# Altium footprint library Blue Tractor_v1.1-2021.PcbLib: 13 footprints
Each footprint in its own frame and in the unit in brackets; x right, y up, seen from the top. Pads: shape width x height; smd on the part's side, far side on the other; paste and mask are expansions set on the pad; w line width, h text height; cw(c..) or ccw(c..) is an arc to the next point about the centre after c.
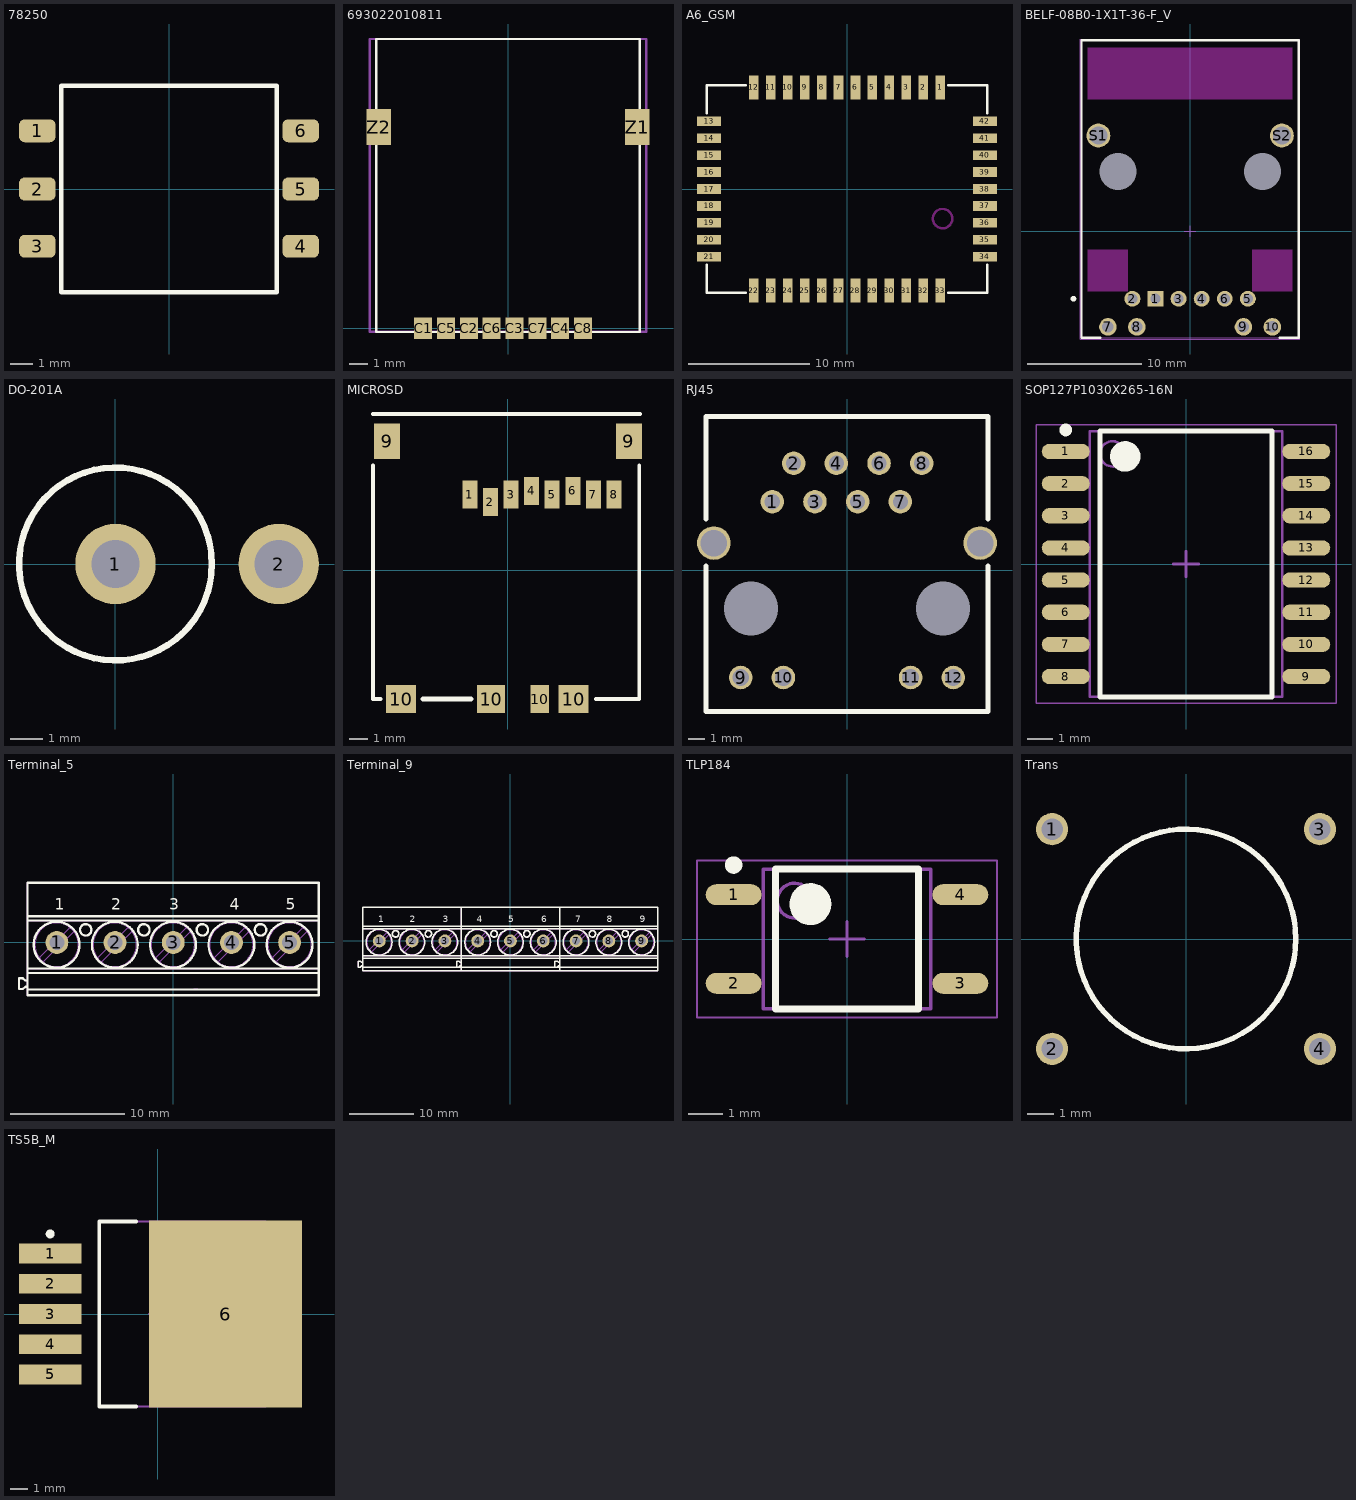
[diagram p0: the footprints below, top view; thin cyan lines are the x and y axes]

## 78250 [mm] "Compatible Converter Transformers"
height 6
pads (6):
  rrect50% 1.6x1 smd: 1(-5.75,2.54) 2(-5.75,0) 3(-5.75,-2.5) 4(5.75,-2.5) 5(5.75,0) 6(5.75,2.54)
Top Overlay:
  lines w0.2: -4.7,-4.5 -4.7,4.5 4.7,4.5 4.7,-4.5 -4.7,-4.5
3D body "User Library-78250MC_SMD.STEP": height 6.35, standoff 0, extent -6.35,-4.445 6.35,4.445

## 693022010811 [mm]
pads (10):
  rect 1x1.2 smd: C1(-4.72,0) C2(-2.18,0) C3(0.36,0) C4(2.9,0) C5(-3.45,0) C6(-0.91,0) C7(1.63,0) C8(4.17,0)
  rect 1.35x2 smd: Z1(7.2,11.2) Z2(-7.2,11.2)
Top Overlay:
  lines w0.127: -7.33,-0.21 7.33,-0.21 7.33,16.1 -7.33,16.1 -7.33,-0.21
Mechanical 13:
  lines w0.127: -7.7,-0.2 7.7,-0.2 7.7,16.1 -7.7,16.1 -7.7,-0.2
3D body "693022010811.stp": height 2.07, standoff -0.06, extent -7.7,-0.21 7.7,16.09

## A6_GSM [mm]
height 3
pads (42):
  rect 0.8x2 smd: 1(7.7,8.4) 2(6.3,8.4) 3(4.9,8.4) 4(3.5,8.4) 5(2.1,8.4) 6(0.7,8.4) 7(-0.7,8.4) 8(-2.1,8.4) 9(-3.5,8.4) 10(-4.9,8.4) 11(-6.3,8.4) 12(-7.7,8.4) 22(-7.7,-8.4) 23(-6.3,-8.4) 24(-4.9,-8.4) 25(-3.5,-8.4) 26(-2.1,-8.4) 27(-0.7,-8.4) 28(0.7,-8.4) 29(2.1,-8.4) 30(3.5,-8.4) 31(4.9,-8.4) 32(6.3,-8.4) 33(7.7,-8.4)
  rect 2x0.8 smd: 13(-11.4,5.6) 14(-11.4,4.2) 15(-11.4,2.8) 16(-11.4,1.4) 17(-11.4,0) 18(-11.4,-1.4) 19(-11.4,-2.8) 20(-11.4,-4.2) 21(-11.4,-5.6) 34(11.4,-5.6) 35(11.4,-4.2) 36(11.4,-2.8) 37(11.4,-1.4) 38(11.4,0) 39(11.4,1.4) 40(11.4,2.8) 41(11.4,4.2) 42(11.4,5.6)
Top Layer keep-out:
  circle w0.2: c7.9,-2.45 r0.8
Top Overlay:
  lines w0.2: -11.608,-6.274 -11.608,-8.585 -8.382,-8.585 ; -11.608,6.274 -11.608,8.585 -8.382,8.585 ; 8.382,-8.585 11.608,-8.585 11.608,-6.274 ; 8.382,8.585 11.608,8.585 11.608,6.274
3D body "User Library-GSM A6-1.step": height 3.21, standoff 0, extent -11.4,-8.4 11.4,8.4

## BELF-08B0-1X1T-36-F_V [mm] "RJ45, 10-Leads, Body 26.17x19.11mm"
height 15.4
pads (14):
  rect 1.4x1.4 hole 0.89 paste+0: 1(-3.045,-5.935)
  round 1.4 hole 0.89 paste+0: 2(-5.075,-5.935) 3(-1.015,-5.935) 4(1.015,-5.935) 5(5.075,-5.935) 6(3.045,-5.935)
  round 1.55 hole 1.02 paste+0: 7(-7.225,-8.405) 8(-4.685,-8.405) 9(4.685,-8.405) 10(7.225,-8.405)
  round 0 hole 3.25 unplated paste+0: MH1(-6.35,5.235) MH2(6.35,5.235)
  round 2.1 hole 1.57 paste+0: S1(-8.065,8.405) S2(8.065,8.405)
Top Layer keep-out:
  rectangle: -9.015,11.585 9.015,16.155
  rectangle: 5.46,-5.305 9.015,-1.625
  rectangle: -9.015,-5.305 -5.46,-1.625
Top Overlay:
  circle w0.25: c-10.255,-5.935 r0.125
  lines w0.2: -7.888,-9.375 -9.555,-9.375 -9.555,16.795 9.555,16.795 9.555,-9.375 7.888,-9.375
Mechanical 13:
  lines w0.1: -9.555,-9.375 9.555,-9.375 9.555,16.795 -9.555,16.795 -9.555,-9.375
Mechanical 15:
  lines w0.05: -9.655,-9.475 9.655,-9.475 9.655,16.895 -9.655,16.895 -9.655,-9.475
  lines w0.1: -0.5,0 0.5,0 ; 0,-0.5 0,0.5
3D body "User Library-RJ45_Belfuse_08B0-1D1T-06-F.step": height 13.49, standoff -3.17, extent -8.85,-9.381 8.85,16.789

## DO-201A [mm] "Diode"
pads (2):
  round 2.5 hole 1.5: 1(0,0) 2(5.08,0)
Top Overlay:
  circle w0.2: c0,0 r3
3D body "User Library-DO-201AV-Vertical_200.STEP": height 15.69, standoff -3, extent -2.8,-2.8 5.74,2.8

## MICROSD [mm]
height 1.8
pads (14):
  rect 0.8x1.5 smd: 1(-2.04,4.025) 2(-0.94,3.625) 3(0.16,4.025) 4(1.26,4.225) 5(2.36,4.025) 6(3.46,4.225) 7(4.56,4.025) 8(5.66,4.025)
  rect 1.4x1.9 smd: 9(-6.45,6.875) 9(6.45,6.875)
  rect 1.6x1.5 smd: 10(-5.7,-6.875) 10(3.5,-6.875)
  rect 1.5x1.5 smd: 10(-0.9,-6.875)
  rect 1x1.5 smd: 10(1.7,-6.875)
Top Overlay:
  lines w0.2: -7.2,5.575 -7.2,-6.875 -6.8,-6.875 ; -7.2,8.325 7.05,8.325 ; 4.675,-6.875 7,-6.875 7,5.575
  lines w0.254: -4.55,-6.875 -1.975,-6.875
3D body "User Library-MEM2050.step": height 1.9, standoff 0, extent -7.2,-6.875 7.05,8.325

## RJ45 [mm]
pads (16):
  round 1.4 hole 0.9: 1(-4.445,4.087) 2(-3.175,6.373) 3(-1.905,4.087) 4(-0.635,6.373) 5(0.635,4.087) 6(1.905,6.373) 7(3.175,4.087) 8(4.445,6.373)
  round 1.4 hole 1: 9(-6.325,-6.373) 10(-3.785,-6.373) 11(3.785,-6.373) 12(6.325,-6.373)
  round 2 hole 1.57: ""(-7.925,1.627) ""(7.925,1.627)
  round 1.3 hole 3.2: ""(-5.715,-2.263) ""(5.715,-2.263)
Top Overlay:
  lines w0.3: -8.382,0.254 -8.382,-8.382 8.382,-8.382 8.382,0.254 ; -8.382,3.048 -8.382,9.144 8.382,9.144 8.382,3.048
3D body "c-5-2301995-3-a-3d.stp": height 16.3, standoff -3.77, extent -8.025,-8.096 8.025,8.854

## SOP127P1030X265-16N [mm] "SOP, 16-Leads, Body 10,30x7,60mm, Pitch 1,27mm, IPC Medium Density"
height 2.65
pads (16):
  oval 1.9x0.6 smd: 1(-4.75,4.445) 2(-4.75,3.175) 3(-4.75,1.905) 4(-4.75,0.635) 5(-4.75,-0.635) 6(-4.75,-1.905) 7(-4.75,-3.175) 8(-4.75,-4.445) 9(4.75,-4.445) 10(4.75,-3.175) 11(4.75,-1.905) 12(4.75,-0.635) 13(4.75,0.635) 14(4.75,1.905) 15(4.75,3.175) 16(4.75,4.445)
Top Overlay:
  circle w0.25: c-4.75,5.295 r0.125
  circle w0.6: c-2.4,4.25 r0.3
  lines w0.2: -3.4,-5.25 -3.4,5.25 3.4,5.25 3.4,-5.25 -3.4,-5.25
Assembly Top:
  circle w0.1: c-2.9,4.35 r0.5
  lines w0.1: -3.8,-5.25 -3.8,5.25 3.8,5.25 3.8,-5.25 -3.8,-5.25
Courtyard Top:
  lines w0.05: -5.925,-5.5 -5.925,5.5 5.925,5.5 5.925,-5.5 -5.925,-5.5
  lines w0.1: -0.5,0 0.5,0 ; 0,-0.5 0,0.5
3D body "SOP127P1030X265-16N.step": height 2.65, standoff 0, extent -5.162,-5.25 5.162,5.25

## Terminal_5 [mm] "PHOENIX MKDS Serie, Pitch 5.08mm, 24A, 400V, 5 Positions Header"
height 18
pads (5):
  round 2 hole 1.3: 1(-10.16,0) 2(-5.08,0) 3(0,0) 4(5.08,0) 5(10.16,0)
Top Overlay:
  circle w0.2: c2.54,1.1 r0.5
  circle w0.2: c7.62,1.1 r0.5
  circle w0.2: c5.08,-0.2 r2
  circle w0.2: c10.16,-0.2 r2
  circle w0.2: c-7.645,1.1 r0.5
  circle w0.2: c-2.565,1.1 r0.5
  circle w0.2: c-10.185,-0.2 r2
  circle w0.2: c-5.105,-0.2 r2
  circle w0.2: c-0.025,-0.2 r2
  lines w0.2: -12.725,-4.1 2.515,-4.1 ; -12.725,-3.869 -12.893,-3.869 -13.125,-4.064 -13.466,-4.064 -13.466,-3.136 -13.125,-3.136 -12.893,-3.331 -12.725,-3.331 ; -12.725,-2.672 2.515,-2.672 ; -12.725,-2.283 2.515,-2.283 ; -12.725,1.909 2.515,1.909 ; -12.725,2.29 2.515,2.29 ; 2.515,-4.6 -12.725,-4.6 -12.725,5.2 2.515,5.2 ; 2.54,-4.6 12.7,-4.6 12.7,5.2 ; 2.54,-4.1 12.7,-4.1 ; 2.54,-2.672 12.7,-2.672 ; 2.54,-2.283 12.7,-2.283 ; 2.54,1.909 12.7,1.909 ; 2.54,2.29 12.675,2.29 ; 2.54,5.2 12.675,5.2
  text "1" at -10.344,2.857 h1
  text "5" at 9.842,2.857 h1
  text "4" at 4.921,2.857 h1
  text "3" at -0.343,2.857 h1
  text "2" at -5.423,2.857 h1
Mechanical 8:
  lines w0.1: -10.685,0 -10.185,0 ; -10.185,-0.5 -10.185,0 ; -10.185,0.5 -10.185,0 ; -9.685,0 -10.185,0 ; -5.605,0 -5.105,0 ; -5.105,-0.5 -5.105,0 ; -5.105,0.5 -5.105,0 ; -4.605,0 -5.105,0 ; -0.525,0 -0.025,0 ; -0.025,-0.5 -0.025,0 ; -0.025,0.5 -0.025,0 ; 0.475,0 -0.025,0 ; 4.58,0 5.08,0 ; 5.08,-0.5 5.08,0 ; 5.08,0.5 5.08,0 ; 5.58,0 5.08,0 ; 9.66,0 10.16,0 ; 10.16,-0.5 10.16,0 ; 10.16,0.5 10.16,0 ; 10.66,0 10.16,0
Mechanical 14:
  circle w0.1: c10.16,-0.2 r2
  circle w0.1: c5.08,-0.2 r2
  circle w0.1: c7.62,1.1 r0.5
  circle w0.1: c10.16,-0.2 r1.891
  circle w0.1: c5.08,-0.2 r1.891
  circle w0.1: c-0.025,-0.2 r2
  circle w0.1: c-5.105,-0.2 r2
  circle w0.1: c-10.185,-0.2 r2
  circle w0.1: c-2.565,1.1 r0.5
  circle w0.1: c-7.645,1.1 r0.5
  circle w0.1: c-0.025,-0.2 r1.891
  circle w0.1: c-5.105,-0.2 r1.891
  circle w0.1: c-10.185,-0.2 r1.891
  lines w0.1: -12.725,-4.1 2.515,-4.1 ; -12.725,-3.869 -12.893,-3.869 -13.125,-4.064 -13.466,-4.064 -13.466,-3.136 -13.125,-3.136 -12.893,-3.331 -12.725,-3.331 ; -12.725,-2.672 2.515,-2.672 ; -12.725,-2.283 2.515,-2.283 ; -12.725,1.909 2.515,1.909 ; -12.725,2.29 2.515,2.29 ; -11.688,-1.349 -9.036,1.303 ; -11.334,-1.703 -8.683,0.949 ; -6.608,-1.349 -3.956,1.303 ; -6.254,-1.703 -3.603,0.949 ; -1.528,-1.349 1.124,1.303 ; -1.174,-1.703 1.477,0.949 ; 1.799,-4.064 2.141,-4.064 ; 2.515,-4.6 -12.725,-4.6 -12.725,5.2 2.515,5.2 ; 2.54,-4.6 12.725,-4.6 ; 2.54,-4.1 12.7,-4.1 ; 2.54,-2.672 12.7,-2.672 ; 2.54,-2.283 12.7,-2.283 ; 2.54,1.909 12.7,1.909 ; 2.54,2.29 12.7,2.29 ; 2.54,5.2 12.675,5.2 ; 3.577,-1.349 6.229,1.303 ; 3.931,-1.703 6.583,0.949 ; 8.657,-1.349 11.309,1.303 ; 9.011,-1.703 11.663,0.949
  text "1" at -10.344,2.857 h1
  text "5" at 9.842,2.857 h1
  text "4" at 4.921,2.857 h1
  text "3" at -0.343,2.857 h1
  text "2" at -5.423,2.857 h1
3D body "PHOENIX_1715734.stp": height 14.19, standoff -3.5, extent -3.281,-4.6 12.7,5.2
3D body "PHOENIX_1715734.stp": height 14.19, standoff -3.5, extent -13.441,-4.6 2.54,5.2

## Terminal_9 [mm] "PHOENIX MKDS Serie, Pitch 5.08mm, 24A, 400V, 9 Positions Header"
height 18
pads (9):
  round 2 hole 1.3: 1(-20.32,0) 2(-15.24,0) 3(-10.16,0) 4(-5.08,0) 5(0,0) 6(5.08,0) 7(10.16,0) 8(15.24,0) 9(20.32,0)
Top Overlay:
  circle w0.2: c-2.54,1.1 r0.5
  circle w0.2: c2.54,1.1 r0.5
  circle w0.2: c-5.08,-0.2 r2
  circle w0.2: c0,-0.2 r2
  circle w0.2: c5.08,-0.2 r2
  circle w0.2: c-17.805,1.1 r0.5
  circle w0.2: c-12.725,1.1 r0.5
  circle w0.2: c-20.345,-0.2 r2
  circle w0.2: c-15.265,-0.2 r2
  circle w0.2: c-10.185,-0.2 r2
  circle w0.2: c12.7,1.1 r0.5
  circle w0.2: c17.78,1.1 r0.5
  circle w0.2: c10.16,-0.2 r2
  circle w0.2: c15.24,-0.2 r2
  circle w0.2: c20.32,-0.2 r2
  lines w0.2: -22.885,-4.1 -7.645,-4.1 ; -22.885,-3.869 -23.053,-3.869 -23.285,-4.064 -23.626,-4.064 -23.626,-3.136 -23.285,-3.136 -23.053,-3.331 -22.885,-3.331 ; -22.885,-2.672 -7.645,-2.672 ; -22.885,-2.283 -7.645,-2.283 ; -22.885,1.909 -7.645,1.909 ; -22.885,2.29 -7.645,2.29 ; -7.62,-4.1 7.62,-4.1 22.86,-4.1 ; -7.62,-3.869 -7.787,-3.869 -8.019,-4.064 -8.361,-4.064 -8.361,-3.136 -8.019,-3.136 -7.787,-3.331 -7.62,-3.331 ; -7.62,-2.672 7.62,-2.672 22.86,-2.672 ; -7.62,-2.283 7.62,-2.283 22.86,-2.283 ; -7.62,1.909 7.62,1.909 22.86,1.909 ; -7.62,2.29 7.62,2.29 22.86,2.29 ; 7.62,-3.869 7.453,-3.869 7.221,-4.064 6.879,-4.064 6.879,-3.136 7.221,-3.136 7.453,-3.331 7.62,-3.331 ; 7.62,-4.6 -7.62,-4.6 -7.62,5.2 7.62,5.2 ; 7.62,-4.6 7.62,5.2 ; 7.62,-4.6 22.86,-4.6 22.86,5.2 7.62,5.2 ; 7.62,-4.6 7.62,5.2 ; -22.885,-4.6 -7.645,-4.6 -7.645,5.2 -22.885,5.2 -22.885,-4.6
  text "1" at -20.504,2.857 h1
  text "9" at 20.002,2.857 h1
  text "8" at 14.922,2.857 h1
  text "7" at 10.001,2.857 h1
  text "6" at 4.763,2.857 h1
  text "5" at -0.318,2.857 h1
  text "4" at -5.239,2.857 h1
  text "3" at -10.503,2.857 h1
  text "2" at -15.583,2.857 h1
Mechanical 8:
  lines w0.1: -20.845,0 -20.345,0 ; -20.345,-0.5 -20.345,0 ; -20.345,0.5 -20.345,0 ; -19.845,0 -20.345,0 ; -15.765,0 -15.265,0 ; -15.265,-0.5 -15.265,0 ; -15.265,0.5 -15.265,0 ; -14.765,0 -15.265,0 ; -10.685,0 -10.185,0 ; -10.185,-0.5 -10.185,0 ; -10.185,0.5 -10.185,0 ; -9.685,0 -10.185,0 ; -5.58,0 -5.08,0 ; -5.08,-0.5 -5.08,0 ; -5.08,0.5 -5.08,0 ; -4.58,0 -5.08,0 ; -0.5,0 0,0 ; 0,-0.5 0,0 ; 0,0.5 0,0 ; 0.5,0 0,0 ; 4.58,0 5.08,0 ; 5.08,-0.5 5.08,0 ; 5.08,0.5 5.08,0 ; 5.58,0 5.08,0 ; 9.66,0 10.16,0 ; 10.16,-0.5 10.16,0 ; 10.16,0.5 10.16,0 ; 10.66,0 10.16,0 ; 14.74,0 15.24,0 ; 15.24,-0.5 15.24,0 ; 15.24,0.5 15.24,0 ; 15.74,0 15.24,0 ; 19.82,0 20.32,0 ; 20.32,-0.5 20.32,0 ; 20.32,0.5 20.32,0 ; 20.82,0 20.32,0
Mechanical 14:
  circle w0.1: c5.08,-0.2 r2
  circle w0.1: c0,-0.2 r2
  circle w0.1: c-5.08,-0.2 r2
  circle w0.1: c2.54,1.1 r0.5
  circle w0.1: c-2.54,1.1 r0.5
  circle w0.1: c5.08,-0.2 r1.891
  circle w0.1: c0,-0.2 r1.891
  circle w0.1: c-5.08,-0.2 r1.891
  circle w0.1: c-10.185,-0.2 r2
  circle w0.1: c-15.265,-0.2 r2
  circle w0.1: c-20.345,-0.2 r2
  circle w0.1: c-12.725,1.1 r0.5
  circle w0.1: c-17.805,1.1 r0.5
  circle w0.1: c-10.185,-0.2 r1.891
  circle w0.1: c-15.265,-0.2 r1.891
  circle w0.1: c-20.345,-0.2 r1.891
  circle w0.1: c20.32,-0.2 r2
  circle w0.1: c15.24,-0.2 r2
  circle w0.1: c10.16,-0.2 r2
  circle w0.1: c17.78,1.1 r0.5
  circle w0.1: c12.7,1.1 r0.5
  circle w0.1: c20.32,-0.2 r1.891
  circle w0.1: c15.24,-0.2 r1.891
  circle w0.1: c10.16,-0.2 r1.891
  lines w0.1: -22.885,-4.1 -7.645,-4.1 ; -22.885,-3.869 -23.053,-3.869 -23.285,-4.064 -23.626,-4.064 -23.626,-3.136 -23.285,-3.136 -23.053,-3.331 -22.885,-3.331 ; -22.885,-2.672 -7.645,-2.672 ; -22.885,-2.283 -7.645,-2.283 ; -22.885,1.909 -7.645,1.909 ; -22.885,2.29 -7.645,2.29 ; -21.848,-1.349 -19.196,1.303 ; -21.494,-1.703 -18.843,0.949 ; -16.768,-1.349 -14.116,1.303 ; -16.414,-1.703 -13.763,0.949 ; -11.688,-1.349 -9.036,1.303 ; -11.334,-1.703 -8.683,0.949 ; -7.62,-4.1 7.62,-4.1 22.86,-4.1 ; -7.62,-3.869 -7.787,-3.869 -8.019,-4.064 -8.361,-4.064 -8.361,-3.136 -8.019,-3.136 -7.787,-3.331 -7.62,-3.331 ; -7.62,-2.672 7.62,-2.672 22.86,-2.672 ; -7.62,-2.283 7.62,-2.283 22.86,-2.283 ; -7.62,1.909 7.62,1.909 22.86,1.909 ; -7.62,2.29 7.62,2.29 22.86,2.29 ; -6.583,-1.349 -3.931,1.303 ; -6.229,-1.703 -3.577,0.949 ; -1.503,-1.349 1.149,1.303 ; -1.149,-1.703 1.503,0.949 ; 3.577,-1.349 6.229,1.303 ; 3.931,-1.703 6.583,0.949 ; 7.62,-3.869 7.453,-3.869 7.221,-4.064 6.879,-4.064 6.879,-3.136 7.221,-3.136 7.453,-3.331 7.62,-3.331 ; 8.657,-1.349 11.309,1.303 ; 9.011,-1.703 11.663,0.949 ; 13.737,-1.349 16.389,1.303 ; 14.091,-1.703 16.743,0.949 ; 18.817,-1.349 21.469,1.303 ; 19.171,-1.703 21.823,0.949 ; 7.62,-4.6 -7.62,-4.6 -7.62,5.2 7.62,5.2 ; 7.62,-4.6 7.62,5.2 ; 7.62,-4.6 7.62,5.2 ; 7.62,-4.6 22.86,-4.6 22.86,5.2 7.62,5.2 ; -22.885,-4.6 -22.885,5.2 -7.645,5.2 -7.645,-4.6 -22.885,-4.6
  text "1" at -20.504,2.857 h1
  text "9" at 20.002,2.857 h1
  text "8" at 14.922,2.857 h1
  text "7" at 10.001,2.857 h1
  text "6" at 4.763,2.857 h1
  text "5" at -0.318,2.857 h1
  text "4" at -5.239,2.857 h1
  text "3" at -10.503,2.857 h1
  text "2" at -15.583,2.857 h1
3D body "PHOENIX_1715734.stp": height 14.2, standoff -3.5, extent -8.361,-4.6 7.62,5.2
3D body "PHOENIX_1715734.stp": height 14.19, standoff -3.5, extent -23.601,-4.6 -7.62,5.2
3D body "PHOENIX_1715734.stp": height 14.2, standoff -3.5, extent 6.879,-4.6 22.86,5.2

## TLP184 [mm] "SOP, 4-Leads, Body 3,75x4,60mm, Pitch 2,54mm, IPC Medium Density"
height 2.1
pads (4):
  oval 1.6x0.6 smd: 1(-3.25,1.27) 2(-3.25,-1.27) 3(3.25,-1.27) 4(3.25,1.27)
Top Overlay:
  circle w0.6: c-1.05,1 r0.3
  circle w0.25: c-3.25,2.12 r0.125
  lines w0.2: -2.05,-2 2.05,-2 2.05,2 -2.05,2 -2.05,-2
Assembly Top:
  circle w0.1: c-1.5,1.1 r0.5
  lines w0.1: -2.4,-2 2.4,-2 2.4,2 -2.4,2 -2.4,-2
Courtyard Top:
  lines w0.05: -4.3,-2.25 4.3,-2.25 4.3,2.25 -4.3,2.25 -4.3,-2.25
  lines w0.1: -0.5,0 0.5,0 ; 0,-0.5 0,0.5
3D body "SOP254P700X210-4N.step": height 2.1, standoff 0, extent -3.5,-2 3.5,2

## Trans [mm]
pads (4):
  round 1.2 hole 0.8: 1(-5,4.1) 2(-5,-4.1) 3(5,4.1) 4(5,-4.1)
Top Overlay:
  circle w0.2: c0,0 r4.1

## TS5B_M [mm] "D2-PAK, 6-Leads, Body 8.6x10.2mm, Pitch 1.7mm, Lead Span 14.1mm, IPC Low Density"
height 4.65
pads (6):
  rect 3.5x1.1 smd: 1(-6.05,3.4) 2(-6.05,1.7) 3(-6.05,0) 4(-6.05,-1.7) 5(-6.05,-3.4)
  rect 8.6x10.5 smd: 6(3.81,0)
Top Overlay:
  circle w0.25: c-6.05,4.5 r0.125
  lines w0.2: -1.2,-5.2 -3.3,-5.2 -3.3,5.2 -1.2,5.2
Mechanical 13:
  lines w0.1: -3.3,-5.2 -3.3,5.2 6.1,5.2 6.1,-5.2 -3.3,-5.2
Mechanical 15:
  lines w0.1: -0.5,0 0.5,0 ; 0,-0.5 0,0.5
3D body "SW3dPS-TO263-5.STEP": height 4.8, standoff 0, extent -7.657,-5 8.013,5